# Altium footprint library SOT23.PcbLib: 1 footprints
Each footprint in its own frame and in the unit in brackets; x right, y up, seen from the top. Pads: shape width x height; smd on the part's side, far side on the other; paste and mask are expansions set on the pad; w line width, h text height; cw(c..) or ccw(c..) is an arc to the next point about the centre after c.
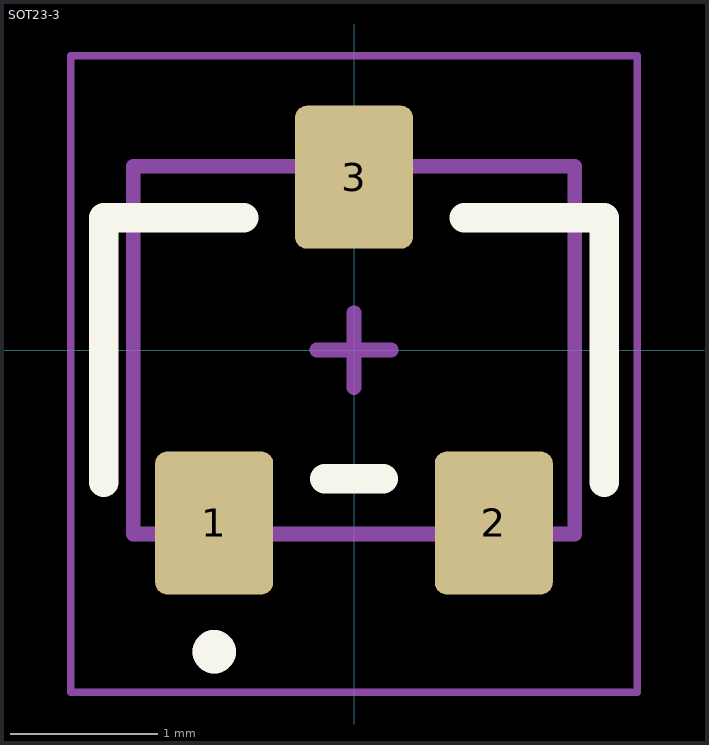
[diagram p0: the footprint, top view; thin cyan lines are the x and y axes]

## SOT23-3 [mm]
pads (3):
  rrect20% 0.802x0.972 smd: 1(-0.95,-1.175) 2(0.95,-1.175) 3(0,1.175)
Top Overlay:
  circle w0.254: c-0.95,-2.05 r0.02
  lines w0.2: -1.7,-0.9 -1.7,0.9 -0.75,0.9 ; -0.2,-0.875 0.2,-0.875 ; 0.75,0.9 1.7,0.9 1.7,-0.9
Mechanical 1:
  circle w0.254: c-0.95,-2.05 r0.02
  lines w0.1: -1.5,-1.25 1.5,-1.25 1.5,1.25 -1.5,1.25 -1.5,-1.25
  text ".Designator" at -1.15,-0.15 h0.65
Mechanical 15:
  lines w0.05: -1.925,-2.325 -1.925,2 1.925,2 1.925,-2.325 -1.925,-2.325
  lines w0.1: -0.254,0 0.254,0 ; 0,-0.254 0,0.254
3D body "CircuitWorks-SOT-23.STEP": height 1.08, standoff -0.02, extent -1.5,-1.25 1.5,1.25